# Altium schematic symbol library SamacSys.SchLib: 115 symbols (part 1 of 2)
Pins are listed as number, name and electrical type; pins without a type are passive.

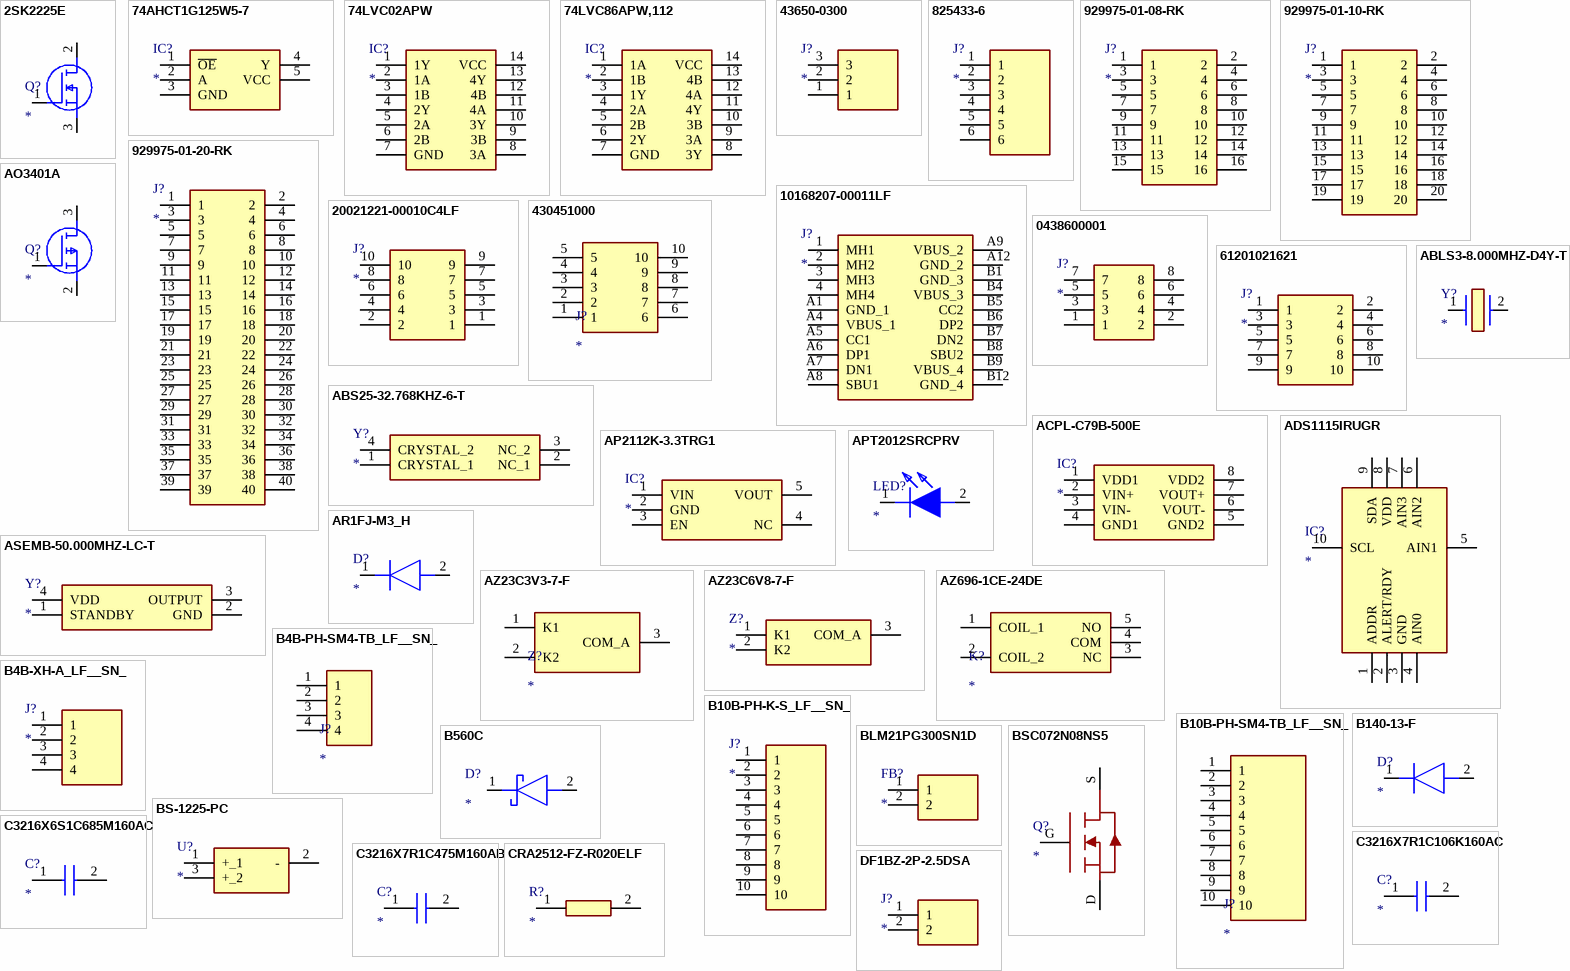
[diagram p0: symbols 2SK2225E to DF1BZ-2P-2.5DSA]

## 2SK2225E
designator Q?
MOSFET (N-Channel); Manufacturer_Name: Renesas Electronics; Manufacturer_Part_Number: 2SK2225E; Datasheet Link: https://www.renesas.com/us/en/document/dst/2sk2225-data-sheet-1500v-2a-mos-fet-high-speed-power-switching?language=en&r=1336396; Height: 5.8mm; Arrow Part Number: 2SK2225E; Arrow Price/Stock: https://www.arrow.com/en/products/2sk2225-e/renesas-electronics
footprint TO545P580X1560X2550-3P
pins: 1 G, 2 D, 3 S

## 74AHCT1G125W5-7
designator IC?
Integrated Circuit; Manufacturer_Name: Diodes Incorporated; Manufacturer_Part_Number: 74AHCT1G125W5-7; Datasheet Link: https://www.diodes.com//assets/Datasheets/74AHCT1G125.pdf; Height: 1.4mm; Mouser Part Number: 621-74AHCT1G125W5-7; Mouser Price/Stock: https://www.mouser.co.uk/ProductDetail/Diodes-Incorporated/74AHCT1G125W5-7?qs=MKoP7Oyr0W7vMAMo33ehAw%3D%3D; Arrow Part Number: 74AHCT1G125W5-7; Arrow Price/Stock: https://www.arrow.com/en/products/74ahct1g125w5-7/diodes-incorporated.html?utm_currency=USD&region=nac
footprint SOT95P285X140-5N
pins: 1 ~{OE}, 2 A, 3 GND, 4 Y, 5 VCC

## 74LVC02APW
designator IC?
Integrated Circuit; Manufacturer_Name: NXP; Manufacturer_Part_Number: 74LVC02APW; Datasheet Link: https://assets.nexperia.cn/documents/data-sheet/74LVC02A.pdf; Height: 1.1mm
footprint SOP65P640X110-14N
pins: 1 1Y, 2 1A, 3 1B, 4 2Y, 5 2A, 6 2B, 7 GND, 8 3A, 9 3B, 10 3Y, 11 4A, 12 4B, 13 4Y, 14 VCC

## 74LVC86APW,112
designator IC?
Integrated Circuit; Manufacturer_Name: Nexperia; Manufacturer_Part_Number: 74LVC86APW,112; Datasheet Link: https://assets.nexperia.com/documents/data-sheet/74LVC86A.pdf; Height: 1.1mm; Mouser Part Number: 771-74LVC86APW; Mouser Price/Stock: https://www.mouser.co.uk/ProductDetail/Nexperia/74LVC86APW112?qs=me8TqzrmIYV74FOn8cDG%2FA%3D%3D; Arrow Part Number: 74LVC86APW,112; Arrow Price/Stock: https://www.arrow.com/en/products/74lvc86apw112/nexperia?region=europe
footprint SOP65P640X110-14N
pins: 1 1A, 2 1B, 3 1Y, 4 2A, 5 2B, 6 2Y, 7 GND, 8 3Y, 9 3A, 10 3B, 11 4Y, 12 4A, 13 4B, 14 VCC

## 43650-0300
designator J?
Connector; Manufacturer_Name: Molex; Manufacturer_Part_Number: 43650-0300; Datasheet Link: https://www.molex.com/pdm_docs/sd/436500200_sd.pdf; Height: 13.56mm; Mouser Part Number: 538-43650-0300; Mouser Price/Stock: https://www.mouser.co.uk/ProductDetail/Molex/43650-0300?qs=P7cO%252B%252BFDLzTpuYfoYulxAA%3D%3D; Arrow Part Number: 43650-0300; Arrow Price/Stock: https://www.arrow.com/en/products/43650-0300/molex?region=nac
footprint 436500300
pins: 1, 2, 3

## 825433-6
designator J?
Connector; Manufacturer_Name: TE Connectivity; Manufacturer_Part_Number: 825433-6; Datasheet Link: http://www.te.com/commerce/DocumentDelivery/DDEController?Action=srchrtrv&DocNm=825433&DocType=Customer+Drawing&DocLang=English&DocFormat=pdf&PartCntxt=825433-6; Height: 9.5mm; Mouser Part Number: 571-825433-6; Mouser Price/Stock: https://www.mouser.co.uk/ProductDetail/TE-Connectivity/825433-6?qs=Yxch5oR%2FTsP7lcFgF3yySA%3D%3D; Arrow Part Number: 825433-6; Arrow Price/Stock: https://www.arrow.com/en/products/825433-6/te-connectivity?region=europe
footprint HDRV6W63P0X254_1X6_1524X254X950P
pins: 1, 2, 3, 4, 5, 6

## 929975-01-08-RK
designator J?
Connector; Manufacturer_Name: 3M; Manufacturer_Part_Number: 929975-01-08-RK; Datasheet Link: http://multimedia.3m.com/mws/media/22500O/3mtm-boardmount-skt-100-100x-100strt-sldr-tails-ts0815.pdf; Height: 8.382mm; Mouser Part Number: 517-929975-01-08-RK; Mouser Price/Stock: https://www.mouser.co.uk/ProductDetail/3M-Electronic-Solutions-Division/929975-01-08-RK?qs=4V84emjyG37XYKYdD412kA%3D%3D; Arrow Part Number: 929975-01-08-RK; Arrow Price/Stock: https://www.arrow.com/en/products/929975-01-08-rk/3m
footprint RHDR16W76P254_2X8_2032X508X838P
pins: 1, 2, 3, 4, 5, 6, 7, 8, 9, 10, 11, 12, 13, 14, 15, 16

## 929975-01-10-RK
designator J?
Connector; Manufacturer_Name: 3M; Manufacturer_Part_Number: 929975-01-10-RK; Datasheet Link: https://componentsearchengine.com/Datasheets/2/929975-01-10-RK.pdf; Height: 8.26mm; Mouser Part Number: 517-929975-01-10-RK; Mouser Price/Stock: https://www.mouser.co.uk/ProductDetail/3M-Electronic-Solutions-Division/929975-01-10-RK?qs=4V84emjyG36NmJ6%252BaqUY8g%3D%3D; Arrow Part Number: 929975-01-10-RK; Arrow Price/Stock: https://www.arrow.com/en/products/929975-01-10-rk/3m
footprint 9299750110RK
pins: 1, 2, 3, 4, 5, 6, 7, 8, 9, 10, 11, 12, 13, 14, 15, 16, 17, 18, 19, 20

## 929975-01-20-RK
designator J?
Connector; Manufacturer_Name: 3M; Manufacturer_Part_Number: 929975-01-20-RK; Datasheet Link: http://multimedia.3m.com/mws/media/22500O/3mtm-boardmount-skt-100-100x-100strt-sldr-tails-ts0815.pdf; Height: 8.26mm; Mouser Part Number: 517-929975-01-20-RK; Mouser Price/Stock: https://www.mouser.co.uk/ProductDetail/3M-Electronic-Solutions-Division/929975-01-20-RK?qs=4V84emjyG36rTUkvYfpt0A%3D%3D; Arrow Part Number: 929975-01-20-RK; Arrow Price/Stock: https://www.arrow.com/en/products/929975-01-20-rk/3m?region=nac
footprint RHDR40W76P254_2X20_5080X508X826P
pins: 1, 2, 3, 4, 5, 6, 7, 8, 9, 10, 11, 12, 13, 14, 15, 16, 17, 18, 19, 20, 21, 22, 23, 24, 25, 26, 27, 28, 29, 30, 31, 32, 33, 34, 35, 36, 37, 38, 39, 40

## 10168207-00011LF
designator J?
Connector; Manufacturer_Name: Amphenol Communications Solutions; Manufacturer_Part_Number: 10168207-00011LF; Datasheet Link: https://www.amphenol-cs.com/product/1016820700011lf.html; Height: 6.6mm; Arrow Part Number: 10168207-00011LF; Arrow Price/Stock: https://www.arrow.com/en/products/10168207-00011lf/amphenol-fci?utm_currency=USD&region=nac
footprint 1016820700011LF
pins: 1 MH1, 2 MH2, 3 MH3, 4 MH4, A1 GND_1, A4 VBUS_1, A5 CC1, A6 DP1, A7 DN1, A8 SBU1, A9 VBUS_2, A12 GND_2, B1 GND_3, B4 VBUS_3, B5 CC2, B6 DP2, B7 DN2, B8 SBU2, B9 VBUS_4, B12 GND_4

## 20021221-00010C4LF
designator J?
Connector; Manufacturer_Name: Amphenol Communications Solutions; Manufacturer_Part_Number: 20021221-00010C4LF; Datasheet Link: https://cdn.amphenol-cs.com/media/wysiwyg/files/drawing/20021221.pdf; Height: 6.6mm; Arrow Part Number: 20021221-00010C4LF; Arrow Price/Stock: https://www.arrow.com/en/products/20021221-00010c4lf/amphenol-fci?region=nac
footprint 2002122100010C4LF
pins: 1, 2, 3, 4, 5, 6, 7, 8, 9, 10

## 430451000
designator J?
Connector; Manufacturer_Name: Molex; Manufacturer_Part_Number: 430451000; Datasheet Link: https://www.molex.com/pdm_docs/sd/430450200_sd.pdf; Height: 8.77mm
footprint 430451010
pins: 1, 2, 3, 4, 5, 6, 7, 8, 9, 10

## 0438600001
designator J?
Connector; Manufacturer_Name: Molex; Manufacturer_Part_Number: 0438600001; Datasheet Link: https://www.molex.com/en-us/products/part-detail-pdf/438600001?display=pdf; Height: 13.46mm; Mouser Part Number: N/A; Mouser Price/Stock: https://www.mouser.co.uk/ProductDetail/Molex/0438600001?qs=%252BdQmOuGyFcGCvppQGdetpg%3D%3D; Arrow Part Number: 0438600001; Arrow Price/Stock: https://www.arrow.com/en/products/0438600001/molex?utm_currency=USD&region=europe
footprint 0438600001
pins: 1, 2, 3, 4, 5, 6, 7, 8

## 61201021621
designator J?
Connector; Manufacturer_Name: Wurth Elektronik; Manufacturer_Part_Number: 61201021621; Datasheet Link: https://www.we-online.com/catalog/datasheet/61201021621.pdf; Height: 9.25mm; Mouser Part Number: 710-61201021621; Mouser Price/Stock: https://www.mouser.co.uk/ProductDetail/Wurth-Elektronik/61201021621?qs=W%252B2sBeLta1a0dwX5pxbfXw%3D%3D
footprint SHDR10W64P254_2X5_2036X885X925P
pins: 1, 2, 3, 4, 5, 6, 7, 8, 9, 10

## ABLS3-8.000MHZ-D4Y-T
designator Y?
Crystal or Oscillator; Manufacturer_Name: ABRACON; Manufacturer_Part_Number: ABLS3-8.000MHZ-D4Y-T; Datasheet Link: https://abracon.com/Resonators/abls.pdf; Mouser Part Number: 815-ABLS3-8MD4YT; Mouser Price/Stock: https://www.mouser.co.uk/ProductDetail/ABRACON/ABLS3-8000MHZ-D4Y-T?qs=WRzgYYgs9gC3im7pazpFGA%3D%3D; Arrow Part Number: ABLS3-8.000MHZ-D4Y-T; Arrow Price/Stock: https://www.arrow.com/en/products/abls3-8.000mhz-d4y-t/abracon?region=europe
footprint ABLS
pins: 1, 2

## ABS25-32.768KHZ-6-T
designator Y?
Crystal or Oscillator; Manufacturer_Name: ABRACON; Manufacturer_Part_Number: ABS25-32.768KHZ-6-T; Datasheet Link: https://abracon.com/Resonators/abs25.pdf; Height: 2mm; Mouser Part Number: 815-ABS25-32.768K6-T; Mouser Price/Stock: https://www.mouser.co.uk/ProductDetail/ABRACON/ABS25-32.768KHZ-6-T?qs=wl%2FhatdkTudHMJeSjMoOzg%3D%3D; Arrow Part Number: ABS25-32.768KHZ-6-T; Arrow Price/Stock: https://www.arrow.com/en/products/abs25-32.768khz-6-t/abracon?utm_currency=USD&region=nac
footprint ABS2532768KHZT
pins: 1 CRYSTAL_1, 2 NC_1, 3 NC_2, 4 CRYSTAL_2

## ACPL-C79B-500E
designator IC?
Integrated Circuit; Manufacturer_Name: Avago Technologies; Manufacturer_Part_Number: ACPL-C79B-500E; Datasheet Link: https://componentsearchengine.com/Datasheets/2/ACPL-C79B-500E.pdf; Height: 3.307mm; Mouser Part Number: 630-ACPL-C79B-500E; Mouser Price/Stock: https://www.mouser.co.uk/ProductDetail/Broadcom-Avago/ACPL-C79B-500E?qs=KAs5CcNu0T7wZOF1KoU8JA%3D%3D
footprint SOIC127P1150X331-8N
pins: 1 VDD1, 2 VIN+, 3 VIN-, 4 GND1, 5 GND2, 6 VOUT-, 7 VOUT+, 8 VDD2

## ADS1115IRUGR
designator IC?
Integrated Circuit; Manufacturer_Name: Texas Instruments; Manufacturer_Part_Number: ADS1115IRUGR; Datasheet Link: https://www.ti.com/lit/ds/symlink/ads1115.pdf?ts=1601235703022&ref_url=https%253A%252F%252Fwww.ti.com%252Fproduct%252FADS1115%253FkeyMatch%253DADS1115IRUGR%2526tisearch%253DSearch-EN-everything%2526usecase%253DOPN; Height: 0.4mm; Mouser Part Number: 595-ADS1115IRUGR; Mouser Price/Stock: https://www.mouser.co.uk/ProductDetail/Texas-Instruments/ADS1115IRUGR?qs=IK5e5L0zOXhqw%2F8AHSSbuA%3D%3D; Arrow Part Number: ADS1115IRUGR; Arrow Price/Stock: https://www.arrow.com/en/products/ads1115irugr/texas-instruments.html?utm_currency=USD&region=nac
footprint ADS1115IRUGR
pins: 1 ADDR, 2 ALERT/RDY, 3 GND, 4 AIN0, 5 AIN1, 6 AIN2, 7 AIN3, 8 VDD, 9 SDA, 10 SCL

## AO3401A
designator Q?
MOSFET (P-Channel); Manufacturer_Name: Alpha & Omega Semiconductors; Manufacturer_Part_Number: AO3401A; Datasheet Link: http://www.aosmd.com/pdfs/datasheet/AO3401A.pdf; Height: 1.25mm; Arrow Part Number: AO3401A; Arrow Price/Stock: https://www.arrow.com/en/products/ao3401a/alpha-and-omega-semiconductor.html?utm_currency=USD&region=europe
footprint SOT95P280X125-3N
pins: 1 G, 2 S, 3 D

## AP2112K-3.3TRG1
designator IC?
Integrated Circuit; Manufacturer_Name: Diodes Incorporated; Manufacturer_Part_Number: AP2112K-3.3TRG1; Datasheet Link: https://www.diodes.com//assets/Datasheets/AP2112.pdf; Height: 1.4mm; Mouser Part Number: 621-AP2112K-3.3TRG1; Mouser Price/Stock: https://www.mouser.co.uk/ProductDetail/Diodes-Incorporated/AP2112K-3.3TRG1?qs=x6A8l6qLYDDPYHosCdzh%2FA%3D%3D; Arrow Part Number: AP2112K-3.3TRG1; Arrow Price/Stock: https://www.arrow.com/en/products/ap2112k-3-3trg1_3/diodes-incorporated.html?utm_currency=USD&region=nac
footprint SOT95P285X140-5N
pins: 1 VIN, 2 GND, 3 EN, 4 NC, 5 VOUT

## APT2012SRCPRV
designator LED?
LED; Manufacturer_Name: Kingbright; Manufacturer_Part_Number: APT2012SRCPRV; Datasheet Link: https://datasheet.datasheetarchive.com/originals/distributors/Datasheets-DGA13/1155209.pdf; Height: 0.85mm; Mouser Part Number: 604-APT2012SRCPRV; Mouser Price/Stock: https://www.mouser.co.uk/ProductDetail/Kingbright/APT2012SRCPRV?qs=E09Sz5t5voXvTeyHQStwZw%3D%3D; Arrow Part Number: APT2012SRCPRV; Arrow Price/Stock: https://www.arrow.com/en/products/apt2012srcprv/kingbright
footprint LEDC2012X85N
pins: 1 K, 2 A

## AR1FJ-M3_H
designator D?
Diode; Manufacturer_Name: Vishay; Manufacturer_Part_Number: AR1FJ-M3/H; Datasheet Link: https://www.vishay.com/docs/87167/ar1fd_ar1fg_ar1fj_ar1fk_ar1f.pdf; Height: 1.08mm; Mouser Part Number: 78-AR1FJ-M3/H; Mouser Price/Stock: https://www.mouser.co.uk/ProductDetail/Vishay-General-Semiconductor/AR1FJ-M3-H?qs=81r%252BiQLm7BRtdacH%252BJR35A%3D%3D
footprint SODFL3718X108N
pins: 1 K, 2 A

## ASEMB-50.000MHZ-LC-T
designator Y?
Crystal or Oscillator; Manufacturer_Name: ABRACON; Manufacturer_Part_Number: ASEMB-50.000MHZ-LC-T; Datasheet Link: https://abracon.com/Oscillators/ASEMB.pdf; Height: 0.9mm; Mouser Part Number: 815-ASEMB-50MHZ-LC; Mouser Price/Stock: https://www.mouser.co.uk/ProductDetail/ABRACON/ASEMB-50.000MHZ-LC-T?qs=3YAjQa1E1OmnK8RKoSQlDQ%3D%3D; Arrow Part Number: ASEMB-50.000MHZ-LC-T; Arrow Price/Stock: https://www.arrow.com/en/products/asemb-50.000mhz-lc-t/abracon?region=nac
footprint ASEMB
pins: 1 STANDBY, 2 GND, 3 OUTPUT, 4 VDD

## AZ23C3V3-7-F
designator Z?
Zener Diode; Manufacturer_Name: Diodes Incorporated; Manufacturer_Part_Number: AZ23C3V3-7-F; Datasheet Link: https://www.diodes.com//assets/Datasheets/AZ23C2V7-AZ23C51.pdf; Height: 1.1mm; Mouser Part Number: 621-AZ23C3V3-7-F; Mouser Price/Stock: https://www.mouser.co.uk/ProductDetail/Diodes-Incorporated/AZ23C3V3-7-F?qs=rGAXPo9uwV1wE7LTrP7l4Q%3D%3D; Arrow Part Number: AZ23C3V3-7-F; Arrow Price/Stock: https://www.arrow.com/en/products/az23c3v3-7-f/diodes-incorporated.html?utm_currency=USD&region=nac
footprint SOT96P240X110-3N
pins: 1 K1, 2 K2, 3 COM_A

## AZ23C6V8-7-F
designator Z?
Zener Diode; Manufacturer_Name: Diodes Incorporated; Manufacturer_Part_Number: AZ23C6V8-7-F; Datasheet Link: https://www.diodes.com//assets/Datasheets/AZ23C2V7-AZ23C51.pdf; Height: 1.1mm; Mouser Part Number: 621-AZ23C6V8-F; Mouser Price/Stock: https://www.mouser.co.uk/ProductDetail/Diodes-Incorporated/AZ23C6V8-7-F?qs=r32ornLrM2jC3Twc9PxgWQ%3D%3D; Arrow Part Number: AZ23C6V8-7-F; Arrow Price/Stock: https://www.arrow.com/en/products/az23c6v8-7-f/diodes-incorporated?region=asia
footprint SOT96P240X110-3N
pins: 1 K1, 2 K2, 3 COM_A

## AZ696-1CE-24DE
designator K?
Relay or Contactor; Manufacturer_Name: Zettler Group; Manufacturer_Part_Number: AZ696-1CE-24DE; Datasheet Link: https://www.azettler.com/media/pdfs/relays/datasheets/AZ696.pdf; Height: 16.5mm
footprint AZ6961CE24DE
pins: 1 COIL_1, 2 COIL_2, 3 NC, 4 COM, 5 NO

## B4B-PH-SM4-TB_LF__SN_
designator J?
Connector; Manufacturer_Name: JST (JAPAN SOLDERLESS TERMINALS); Manufacturer_Part_Number: B4B-PH-SM4-TB(LF)(SN); Datasheet Link: https://datasheet.datasheetarchive.com/originals/distributors/Datasheets_SAMA/75c02eb1799788a6b14d7c521ee36df4.pdf; Mouser Part Number: N/A; Mouser Price/Stock: https://www.mouser.co.uk/ProductDetail/JST-Commercial/B4B-PH-SM4-TBLFSN?qs=QpmGXVUTftEshE2WNd%252BKhA%3D%3D; Arrow Part Number: B4B-PH-SM4-TB(LF)(SN); Arrow Price/Stock: https://www.arrow.com/en/products/b4b-ph-sm4-tb-lf-sn/jst-manufacturing?utm_currency=USD&region=europe
footprint B4B-PH-SM4_1
pins: 1, 2, 3, 4

## B4B-XH-A_LF__SN_
designator J?
Connector; Manufacturer_Name: JST (JAPAN SOLDERLESS TERMINALS); Manufacturer_Part_Number: B4B-XH-A(LF)(SN); Datasheet Link: https://datasheet.lcsc.com/szlcsc/JST-Sales-America-B4B-XH-A-LF-SN_C144395.pdf; Height: 7mm; Mouser Part Number: 306-B4BXHALFSN; Mouser Price/Stock: https://www.mouser.co.uk/ProductDetail/JST-Commercial/B4B-XH-ALFSN?qs=cdbOS8ANM9CfC08d%252BywhFw%3D%3D; Arrow Part Number: B4B-XH-A(LF)(SN); Arrow Price/Stock: https://www.arrow.com/en/products/b4b-xh-a-lf-sn/jst-manufacturing.html?utm_currency=USD&region=europe
footprint B4BXHALFSN
pins: 1, 2, 3, 4

## B10B-PH-K-S_LF__SN_
designator J?
Connector; Manufacturer_Name: JST (JAPAN SOLDERLESS TERMINALS); Manufacturer_Part_Number: B10B-PH-K-S(LF)(SN); Datasheet Link: http://uk.rs-online.com/web/p/products/8201428; Height: 6mm; Mouser Part Number: 306-B10BPHKSLFSNP; Mouser Price/Stock: https://www.mouser.co.uk/ProductDetail/JST-Commercial/B10B-PH-K-SLFSN?qs=cdbOS8ANM9DLK%252BV4%252BSvt4w%3D%3D; Arrow Part Number: B10B-PH-K-S(LF)(SN); Arrow Price/Stock: https://www.arrow.com/en/products/b10b-ph-k-s-lf-sn/jst-manufacturing.html?utm_currency=USD&region=europe
footprint SHDR10W50P0X200_1X10_2190X450X600P
pins: 1, 2, 3, 4, 5, 6, 7, 8, 9, 10

## B10B-PH-SM4-TB_LF__SN_
designator J?
Connector; Manufacturer_Name: JST (JAPAN SOLDERLESS TERMINALS); Manufacturer_Part_Number: B10B-PH-SM4-TB(LF)(SN); Datasheet Link: 3D.stepfileforB10B-PH-SM4-TB; Mouser Part Number: N/A; Mouser Price/Stock: https://www.mouser.co.uk/ProductDetail/JST-Commercial/B10B-PH-SM4-TBLFSN?qs=QpmGXVUTftF7W3%2Fyb2FnNQ%3D%3D; Arrow Part Number: B10B-PH-SM4-TB(LF)(SN); Arrow Price/Stock: https://www.arrow.com/en/products/b10b-ph-sm4-tb-lf-sn/jst-manufacturing.html?utm_currency=USD&region=europe
footprint B10B-PH-SM4-TB
pins: 1, 2, 3, 4, 5, 6, 7, 8, 9, 10

## B140-13-F
designator D?
Diode; Manufacturer_Name: Diodes Incorporated; Manufacturer_Part_Number: B140-13-F; Datasheet Link: https://datasheet.datasheetarchive.com/originals/distributors/Datasheets-DGA23/1390625.pdf; Height: 2.4mm; Mouser Part Number: 621-B140-F; Mouser Price/Stock: https://www.mouser.co.uk/ProductDetail/Diodes-Incorporated/B140-13-F?qs=WD5RSVa%252BtHX7upkpmyg1Cg%3D%3D; Arrow Part Number: B140-13-F; Arrow Price/Stock: https://www.arrow.com/en/products/b140-13-f/diodes-incorporated?utm_currency=USD&region=nac
footprint DIOM5226X240N
pins: 1 K, 2 A

## B560C
designator D?
Schottky Diode; Manufacturer_Name: Lite-On; Manufacturer_Part_Number: B560C; Datasheet Link: https://datasheet.datasheetarchive.com/originals/distributors/Datasheets-17/DSA-323419.pdf; Height: 2.5mm; Arrow Part Number: B560C; Arrow Price/Stock: https://www.arrow.com/en/products/b560c/lite-on-technology.html?utm_currency=USD&region=nac
footprint DIOM7959X250N
pins: 1 K, 2 A

## BLM21PG300SN1D
designator FB?
Ferrite Bead; Manufacturer_Name: Murata Electronics; Manufacturer_Part_Number: BLM21PG300SN1D; Datasheet Link: https://www.murata.com/en-global/products/productdetail?partno=BLM21PG300SN1%23; Height: 1.05mm; Mouser Part Number: 81-BLM21P300S; Mouser Price/Stock: https://www.mouser.co.uk/ProductDetail/Murata-Electronics/BLM21PG300SN1D?qs=vSIcEeo8lXttJMV%2F1g5%2F6A%3D%3D; Arrow Part Number: BLM21PG300SN1D; Arrow Price/Stock: https://www.arrow.com/en/products/blm21pg300sn1d/murata-manufacturing.html?utm_currency=USD&region=nac
footprint BEADC2012X105N
pins: 1, 2

## BS-1225-PC
designator U?
Undefined or Miscellaneous; Manufacturer_Name: Memory Protection Devices; Manufacturer_Part_Number: BS-1225-PC; Datasheet Link: http://www.memoryprotectiondevices.com/datasheets/BS-1225-PC-datasheet.pdf; Height: 8.33mm
footprint BS1225PC
pins: 1 +_1, 2 -, 3 +_2

## BSC072N08NS5
designator Q?
Transistor; Manufacturer_Name: Infineon; Manufacturer_Part_Number: BSC072N08NS5; Datasheet Link: https://www.infineon.com/dgdl/Infineon-BSC072N08NS5-DS-v02_00-EN.pdf?fileId=5546d4624ad04ef9014ae3d8e8192c7c; Mouser Part Number: N/A; Mouser Price/Stock: https://www.mouser.co.uk/ProductDetail/Infineon-Technologies/BSC072N08NS5?qs=eERmAtE5kX0PueJFVqKhsA%3D%3D
footprint BSC080N03LSG
pins: D, G, S

## C3216X6S1C685M160AC
designator C?
Capacitor; Manufacturer_Name: TDK; Manufacturer_Part_Number: C3216X6S1C685M160AC; Datasheet Link: https://product.tdk.com/info/en/catalog/datasheets/mlcc_commercial_midvoltage_en.pdf; Height: 1.8mm; Mouser Part Number: 810-C3216X6S1C685M6A; Mouser Price/Stock: https://www.mouser.co.uk/ProductDetail/TDK/C3216X6S1C685M160AC?qs=xLDY6iXSiQb%2FcKt%252BIMIujg%3D%3D
footprint CAPC3216X180N
pins: 1, 2

## C3216X7R1C106K160AC
designator C?
Capacitor; Manufacturer_Name: TDK; Manufacturer_Part_Number: C3216X7R1C106K160AC; Datasheet Link: https://product.tdk.com/info/en/catalog/datasheets/mlcc_commercial_midvoltage_en.pdf; Height: 1.8mm; Mouser Part Number: 810-C3216X7R1C106K; Mouser Price/Stock: https://www.mouser.co.uk/ProductDetail/TDK/C3216X7R1C106K160AC?qs=NRhsANhppD%252BpNpcA%252BnoX2A%3D%3D; Arrow Part Number: C3216X7R1C106K160AC; Arrow Price/Stock: https://www.arrow.com/en/products/c3216x7r1c106k160ac/tdk.html?utm_currency=USD&region=nac
footprint C3216X7R1C106K160AC
pins: 1, 2

## C3216X7R1C475M160AB
designator C?
Capacitor; Manufacturer_Name: TDK; Manufacturer_Part_Number: C3216X7R1C475M160AB; Datasheet Link: https://product.tdk.com/info/en/catalog/datasheets/mlcc_commercial_midvoltage_en.pdf; Height: 1.8mm; Mouser Part Number: 810-C3216X7R1C475M-6; Mouser Price/Stock: https://www.mouser.co.uk/ProductDetail/TDK/C3216X7R1C475M160AB?qs=LcTL%2F5vFEzFeLWJRGcejwg%3D%3D
footprint CAPC3216X180N
pins: 1, 2

## CRA2512-FZ-R020ELF
designator R?
Resistor; Manufacturer_Name: Bourns; Manufacturer_Part_Number: CRA2512-FZ-R020ELF; Datasheet Link: https://componentsearchengine.com/Datasheets/2/CRA2512-FZ-R020ELF.pdf; Height: 0.9mm; Mouser Part Number: 652-CRA2512FZ-R20ELF; Mouser Price/Stock: https://www.mouser.co.uk/ProductDetail/Bourns/CRA2512-FZ-R020ELF?qs=WqWCsLCZBkqBWIN8p659hA%3D%3D; Arrow Part Number: CRA2512-FZ-R020ELF; Arrow Price/Stock: https://www.arrow.com/en/products/cra2512-fz-r020elf/bourns?utm_currency=USD&region=nac
footprint RESC6434X90N
pins: 1, 2

## DF1BZ-2P-2.5DSA
designator J?
Connector; Manufacturer_Name: Hirose; Manufacturer_Part_Number: DF1BZ-2P-2.5DSA; Datasheet Link: https://componentsearchengine.com/Datasheets/1/DF1BZ-2P-2.5DSA.pdf; Height: 9.5mm; Mouser Part Number: 798-DF1BZ-2P-2.5DSA; Mouser Price/Stock: https://www.mouser.co.uk/ProductDetail/Hirose-Connector/DF1BZ-2P-2.5DSA?qs=zOgoZG1CgI8LrP8JeSLTcg%3D%3D
footprint SHDR2W64P0X250_1X2_750X570X950P
pins: 1, 2

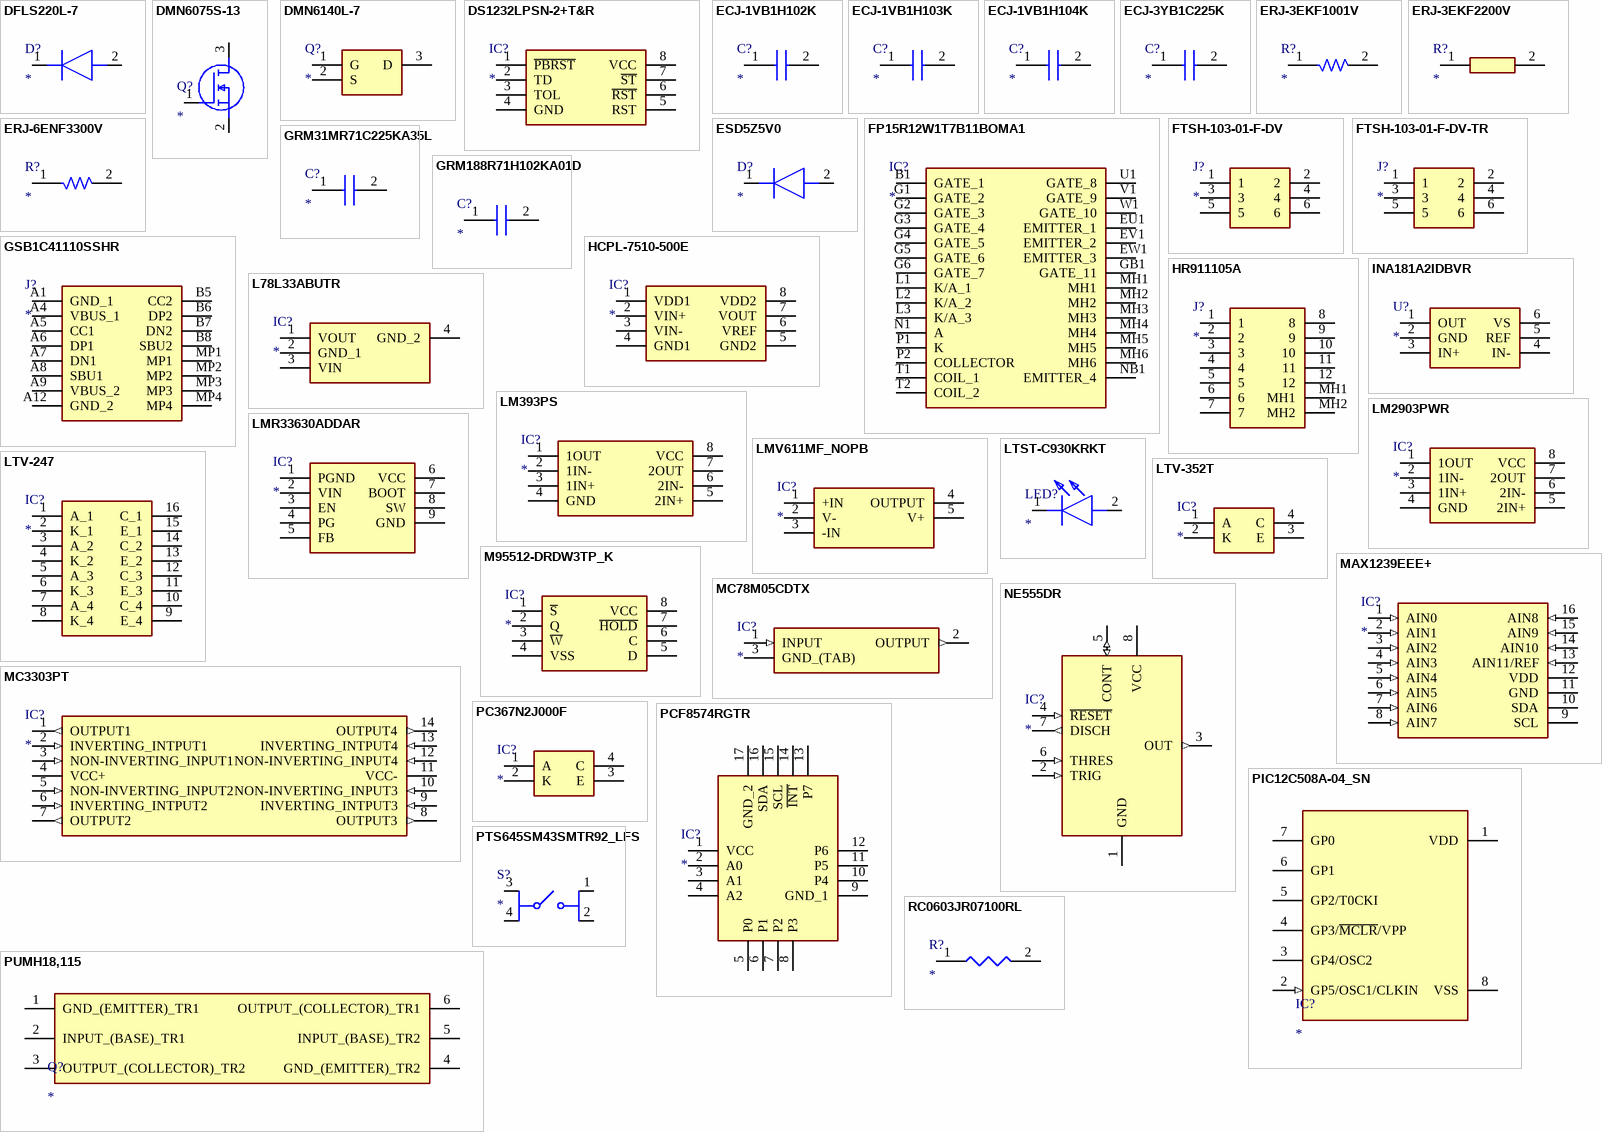
[diagram p1: symbols DFLS220L-7 to RC0603JR07100RL]

## DFLS220L-7
designator D?
Diode; Manufacturer_Name: Diodes Incorporated; Manufacturer_Part_Number: DFLS220L-7; Datasheet Link: https://www.diodes.com//assets/Datasheets/DFLS220L.pdf; Height: 1mm; Mouser Part Number: 621-DFLS220L-7; Mouser Price/Stock: https://www.mouser.co.uk/ProductDetail/Diodes-Incorporated/DFLS220L-7?qs=JV7lzlMm3yKg8xIxKLbqeg%3D%3D; Arrow Part Number: DFLS220L-7; Arrow Price/Stock: https://www.arrow.com/en/products/dfls220l-7/diodes-incorporated?region=nac
footprint DFLS220L7
pins: 1 K, 2 A

## DMN6075S-13
designator Q?
MOSFET (N-Channel); Manufacturer_Name: Diodes Incorporated; Manufacturer_Part_Number: DMN6075S-13; Datasheet Link: https://eu.mouser.com/datasheet/3/175/1/DMN6075S.pdf; Height: 1.1mm; Mouser Part Number: 621-DMN6075S-13; Mouser Price/Stock: https://www.mouser.co.uk/ProductDetail/Diodes-Incorporated/DMN6075S-13?qs=kgdtKPt0h%252BBdQiAECMpVGw%3D%3D; Arrow Part Number: DMN6075S-13; Arrow Price/Stock: https://www.arrow.com/en/products/dmn6075s-13/diodes-incorporated?utm_currency=USD&region=nac
footprint SOT96P240X110-3N
pins: 1 G, 2 S, 3 D

## DMN6140L-7
designator Q?
Transistor; Manufacturer_Name: Diodes Incorporated; Manufacturer_Part_Number: DMN6140L-7; Datasheet Link: https://www.diodes.com//assets/Datasheets/DMN6140L.pdf; Height: 1.1mm; Mouser Part Number: 621-DMN6140L-7; Mouser Price/Stock: https://www.mouser.co.uk/ProductDetail/Diodes-Incorporated/DMN6140L-7?qs=M%2FOdCRO8QQ0gki98nN7lXQ%3D%3D; Arrow Part Number: DMN6140L-7; Arrow Price/Stock: https://www.arrow.com/en/products/dmn6140l-7/diodes-incorporated?utm_currency=USD&region=asia
footprint SOT96P240X110-3N
pins: 1 G, 2 S, 3 D

## DS1232LPSN-2+T&R
designator IC?
Integrated Circuit; Manufacturer_Name: Analog Devices; Manufacturer_Part_Number: DS1232LPSN-2+T&R; Datasheet Link: https://pdfserv.maximintegrated.com/en/ds/DS1232LP.pdf; Height: 1.75mm; Mouser Part Number: 700-DS1232LPSN-2T&R; Mouser Price/Stock: https://www.mouser.co.uk/ProductDetail/Maxim-Integrated/DS1232LPSN-2%2bTR?qs=Jw2w9zrI6w%2FDdsXXbj6apQ%3D%3D; Arrow Part Number: DS1232LPSN-2+T&R; Arrow Price/Stock: https://www.arrow.com/en/products/ds1232lpsn-2tr/maxim-integrated?region=nac
footprint SOIC127P600X175-8N
pins: 1 ~{PBRST}, 2 TD, 3 TOL, 4 GND, 5 RST, 6 ~{RST}, 7 ~{ST}, 8 VCC

## ECJ-1VB1H102K
designator C?
Capacitor; Manufacturer_Name: Panasonic; Manufacturer_Part_Number: ECJ-1VB1H102K; Datasheet Link: https://media.digikey.com/pdf/Data%20Sheets/Panasonic%20Capacitors%20PDFs/ECJ_(General).pdf; Height: 0.9mm; Mouser Part Number: N/A; Mouser Price/Stock: http://www.mouser.com/Search/ProductDetail.aspx?qs=lGJwT77Xlmb%252b4hRyOmIB5A%3d%3d
footprint CAPC1608X90N
pins: 1, 2

## ECJ-1VB1H103K
designator C?
Capacitor; Manufacturer_Name: Panasonic; Manufacturer_Part_Number: ECJ-1VB1H103K; Datasheet Link: https://media.digikey.com/pdf/Data%20Sheets/Panasonic%20Capacitors%20PDFs/ECJ_(General).pdf; Height: 0.9mm; Mouser Part Number: N/A; Mouser Price/Stock: https://www.mouser.co.uk/ProductDetail/Panasonic/ECJ-1VB1H103K?qs=lGJwT77XlmYjRQ45jbm3mw%3D%3D
footprint CAPC1608X90N
pins: 1, 2

## ECJ-1VB1H104K
designator C?
Capacitor; Manufacturer_Name: Panasonic; Manufacturer_Part_Number: ECJ-1VB1H104K; Datasheet Link: https://componentsearchengine.com/Datasheets/1/ECJ-1VB1H104K.pdf; Height: 0.9mm; Mouser Part Number: 667-ECJ-1VB1H104K; Mouser Price/Stock: https://www.mouser.com/Search/Refine.aspx?Keyword=667-ECJ-1VB1H104K
footprint CAPC1608X90N
pins: 1, 2

## ECJ-3YB1C225K
designator C?
Capacitor; Manufacturer_Name: Panasonic; Manufacturer_Part_Number: ECJ-3YB1C225K; Datasheet Link: https://media.digikey.com/pdf/Data%20Sheets/Panasonic%20Capacitors%20PDFs/ECJ(HighCapacitance).pdf; Height: 1.8mm; Mouser Part Number: 667-ECJ-3YB1C225K; Mouser Price/Stock: https://www.mouser.co.uk/ProductDetail/Panasonic/ECJ-3YB1C225K?qs=ppuDbbk9O4zz0%2FKHA1MBBw%3D%3D
footprint CAPC3216X180N
pins: 1, 2

## ERJ-3EKF1001V
designator R?
Resistor; Manufacturer_Name: Panasonic; Manufacturer_Part_Number: ERJ-3EKF1001V; Datasheet Link: http://industrial.panasonic.com/cdbs/www-data/pdf/RDA0000/AOA0000C86.pdf; Height: 0.55mm; Mouser Part Number: 667-ERJ-3EKF1001V; Mouser Price/Stock: https://www.mouser.co.uk/ProductDetail/Panasonic/ERJ-3EKF1001V?qs=H7k1u0Mp9JTM8yQxOuvoDg%3D%3D; Arrow Part Number: ERJ-3EKF1001V; Arrow Price/Stock: https://www.arrow.com/en/products/erj-3ekf1001v/panasonic.html?utm_currency=USD&region=asia
footprint RESC1608X55N
pins: 1, 2

## ERJ-3EKF2200V
designator R?
Resistor; Manufacturer_Name: Panasonic; Manufacturer_Part_Number: ERJ-3EKF2200V; Datasheet Link: http://industrial.panasonic.com/cdbs/www-data/pdf/RDA0000/AOA0000C86.pdf; Height: 0.55mm; Mouser Part Number: 667-ERJ-3EKF2200V; Mouser Price/Stock: https://www.mouser.co.uk/ProductDetail/Panasonic/ERJ-3EKF2200V?qs=iBwFsHVUAOcTUCNoJPNpnQ%3D%3D; Arrow Part Number: ERJ-3EKF2200V; Arrow Price/Stock: https://www.arrow.com/en/products/erj-3ekf2200v/panasonic?region=nac
footprint RESC1608X55N
pins: 1, 2

## ERJ-6ENF3300V
designator R?
Resistor; Manufacturer_Name: Panasonic; Manufacturer_Part_Number: ERJ-6ENF3300V; Datasheet Link: https://industrial.panasonic.com/cdbs/www-data/pdf/RDA0000/AOA0000C84.pdf; Height: 0.7mm; Mouser Part Number: 667-ERJ-6ENF3300V; Mouser Price/Stock: https://www.mouser.co.uk/ProductDetail/Panasonic/ERJ-6ENF3300V?qs=50QC8w71jAutVt4SKpyZ1A%3D%3D; Arrow Part Number: ERJ-6ENF3300V; Arrow Price/Stock: https://www.arrow.com/en/products/erj6enf3300v/panasonic?region=europe
footprint ERJ6ENF1000V
pins: 1, 2

## ESD5Z5V0
designator D?
Diode; Manufacturer_Name: Diotec; Manufacturer_Part_Number: ESD5Z5V0; Datasheet Link: https://www.mouser.in/datasheet/2/849/esd5z2v5-2891948.pdf; Height: 0.7mm; Mouser Part Number: 637-ESD5Z5V0; Mouser Price/Stock: https://www.mouser.co.uk/ProductDetail/Diotec-Semiconductor/ESD5Z5V0?qs=OlC7AqGiEDkOteFEVl3upQ%3D%3D; Arrow Part Number: ESD5Z5V0; Arrow Price/Stock: https://www.arrow.com/en/products/esd5z5v0/diotec-semiconductor-ag?utm_currency=USD&region=nac
footprint SODFL1608X70N
pins: 1 K, 2 A

## FP15R12W1T7B11BOMA1
designator IC?
Integrated Circuit; Manufacturer_Name: Infineon; Manufacturer_Part_Number: FP15R12W1T7B11BOMA1; Datasheet Link: https://componentsearchengine.com/Datasheets/2/FP15R12W1T7B11BOMA1.pdf; Height: 12.35mm; Mouser Part Number: 726-FP15R12W1T7B11BO; Mouser Price/Stock: https://www.mouser.co.uk/ProductDetail/Infineon-Technologies/FP15R12W1T7B11BOMA1?qs=mAH9sUMRCtt9RKnXHnnRNg%3D%3D; Arrow Part Number: FP15R12W1T7B11BOMA1; Arrow Price/Stock: https://www.arrow.com/en/products/fp15r12w1t7b11boma1/infineon-technologies-ag?region=nac
footprint FP15R12W1T7B11BOMA1
pins: B1 GATE_1, EU1 EMITTER_1, EV1 EMITTER_2, EW1 EMITTER_3, G1 GATE_2, G2 GATE_3, G3 GATE_4, G4 GATE_5, G5 GATE_6, G6 GATE_7, GB1 GATE_11, L1 K/A_1, L2 K/A_2, L3 K/A_3, MH1, MH2, MH3, MH4, MH5, MH6, N1 A, NB1 EMITTER_4, P1 K, P2 COLLECTOR, T1 COIL_1, T2 COIL_2, U1 GATE_8, V1 GATE_9, W1 GATE_10

## FTSH-103-01-F-DV
designator J?
Connector; Manufacturer_Name: SAMTEC; Manufacturer_Part_Number: FTSH-103-01-F-DV; Datasheet Link: https://suddendocs.samtec.com/prints/ftsh-1xx-xx-xxx-dv-xxx-xxx-x-xx-mkt.pdf; Height: 4.7mm; Mouser Part Number: 200-FTSH10301FDV; Mouser Price/Stock: https://www.mouser.co.uk/ProductDetail/Samtec/FTSH-103-01-F-DV?qs=0lQeLiL1qyapSxhfJ1D0vw%3D%3D; Arrow Part Number: FTSH-103-01-F-DV; Arrow Price/Stock: https://www.arrow.com/en/products/ftsh-103-01-f-dv/samtec?region=nac
footprint FTSH10301FDV
pins: 1, 2, 3, 4, 5, 6

## FTSH-103-01-F-DV-TR
designator J?
Connector; Manufacturer_Name: SAMTEC; Manufacturer_Part_Number: FTSH-103-01-F-DV-TR; Datasheet Link: http://suddendocs.samtec.com/prints/ftsh-1xx-xx-xxx-dv-xxx-xxx-mkt.pdf; Mouser Part Number: 200-FTSH10301FDVTR; Mouser Price/Stock: https://www.mouser.co.uk/ProductDetail/Samtec/FTSH-103-01-F-DV-TR?qs=92ilVni64gxfHAnR47P9HQ%3D%3D; Arrow Part Number: FTSH-103-01-F-DV-TR; Arrow Price/Stock: https://www.arrow.com/en/products/ftsh-103-01-f-dv-tr/samtec?utm_currency=USD&region=europe
footprint FTSH-103-XX-YYY-DV-TR
pins: 1, 2, 3, 4, 5, 6

## GRM31MR71C225KA35L
designator C?
Capacitor; Manufacturer_Name: Murata Electronics; Manufacturer_Part_Number: GRM31MR71C225KA35L; Datasheet Link: https://search.murata.co.jp/Ceramy/image/img/A01X/G101/ENG/GRM31MR71C225KA35-02A.pdf; Height: 1.25mm; Mouser Part Number: 81-GRM426X225K16L; Mouser Price/Stock: https://www.mouser.co.uk/ProductDetail/Murata-Electronics/GRM31MR71C225KA35L?qs=JVCxRIvUwGzH5e33oY%2FQjg%3D%3D; Arrow Part Number: GRM31MR71C225KA35L; Arrow Price/Stock: https://www.arrow.com/en/products/grm31mr71c225ka35l/murata-manufacturing
footprint GRM31MR71E105KA01L
pins: 1 C1, 2 C2

## GRM188R71H102KA01D
designator C?
Capacitor; Manufacturer_Name: Murata Electronics; Manufacturer_Part_Number: GRM188R71H102KA01D; Datasheet Link: https://search.murata.co.jp/Ceramy/image/img/A01X/G101/ENG/GRM188R71H102KA01-01.pdf; Height: 0.9mm; Mouser Part Number: 81-GRM39X102K050; Mouser Price/Stock: https://www.mouser.co.uk/ProductDetail/Murata-Electronics/GRM188R71H102KA01D?qs=Qu7Ae%2Fbfg46yEdD2q0T00g%3D%3D; Arrow Part Number: GRM188R71H102KA01D; Arrow Price/Stock: https://www.arrow.com/en/products/grm188r71h102ka01d/murata-manufacturing?utm_currency=USD&region=europe
footprint CAPC1608X90N
pins: 1, 2

## GSB1C41110SSHR
designator J?
Connector; Manufacturer_Name: Amphenol Communications Solutions; Manufacturer_Part_Number: GSB1C41110SSHR; Datasheet Link: https://cdn.amphenol-cs.com/media/wysiwyg/files/drawing/gsb1c41x10sshr-ax1.pdf; Height: 3.41mm
footprint GSB1C41110SSHR
pins: A1 GND_1, A4 VBUS_1, A5 CC1, A6 DP1, A7 DN1, A8 SBU1, A9 VBUS_2, A12 GND_2, B5 CC2, B6 DP2, B7 DN2, B8 SBU2, MP1, MP2, MP3, MP4

## HCPL-7510-500E
designator IC?
Integrated Circuit; Manufacturer_Name: Avago Technologies; Manufacturer_Part_Number: HCPL-7510-500E; Datasheet Link: https://www.mouser.jp/datasheet/2/678/av02-0951en-1828031.pdf; Height: 4.7mm; Mouser Part Number: 630-HCPL-7510-500E; Mouser Price/Stock: https://www.mouser.co.uk/ProductDetail/Broadcom-Avago/HCPL-7510-500E?qs=s%252BgfxR24RQ5yjo9zHgvakg%3D%3D
footprint DIP762W65P254L980H470Q8N
pins: 1 VDD1, 2 VIN+, 3 VIN-, 4 GND1, 5 GND2, 6 VREF, 7 VOUT, 8 VDD2

## HR911105A
designator J?
Connector; Manufacturer_Name: Hanrun Electronics; Manufacturer_Part_Number: HR911105A; Datasheet Link: https://datasheet.lcsc.com/szlcsc/Zhongshan-HanRun-Elec-HR911105A_C12074.pdf; Height: 13.75mm
footprint HR911105A
pins: 1, 2, 3, 4, 5, 6, 7, 8, 9, 10, 11, 12, MH1, MH2

## INA181A2IDBVR
designator U?
Undefined or Miscellaneous; Manufacturer_Name: Texas Instruments; Manufacturer_Part_Number: INA181A2IDBVR; Datasheet Link: http://www.ti.com/general/docs/suppproductinfo.tsp?distId=26&gotoUrl=http%3A%2F%2Fwww.ti.com%2Flit%2Fgpn%2Fina181; Height: 1.45mm; Mouser Part Number: 595-INA181A2IDBVR; Mouser Price/Stock: https://www.mouser.co.uk/ProductDetail/Texas-Instruments/INA181A2IDBVR?qs=5aG0NVq1C4wvxWxbAGEmKw%3D%3D; Arrow Part Number: INA181A2IDBVR; Arrow Price/Stock: https://www.arrow.com/en/products/ina181a2idbvr/texas-instruments.html?utm_currency=USD&region=nac
footprint SOT95P280X145-6N
pins: 1 OUT, 2 GND, 3 IN+, 4 IN-, 5 REF, 6 VS

## L78L33ABUTR
designator IC?
Integrated Circuit; Manufacturer_Name: STMicroelectronics; Manufacturer_Part_Number: L78L33ABUTR; Datasheet Link: https://www.st.com/resource/en/datasheet/l78l.pdf; Height: 1.6mm; Mouser Part Number: 511-L78L33ABU-TR; Mouser Price/Stock: https://www.mouser.co.uk/ProductDetail/STMicroelectronics/L78L33ABUTR?qs=PnCBpldbqFTdngPnlIvZbQ%3D%3D; Arrow Part Number: L78L33ABUTR; Arrow Price/Stock: https://www.arrow.com/en/products/l78l33abutr/stmicroelectronics?utm_currency=USD&region=nac
footprint L78L33ABUTR
pins: 1 VOUT, 2 GND_1, 3 VIN, 4 GND_2

## LM393PS
designator IC?
Integrated Circuit; Manufacturer_Name: Texas Instruments; Manufacturer_Part_Number: LM393PS; Datasheet Link: https://www.ti.com/lit/gpn/LM393; Height: 2mm; Mouser Part Number: 595-LM393PS; Mouser Price/Stock: https://www.mouser.co.uk/ProductDetail/Texas-Instruments/LM393PS?qs=byeeYqUIh0PIEckWUq91Lw%3D%3D; Arrow Part Number: LM393PS; Arrow Price/Stock: https://www.arrow.com/en/products/lm393ps/texas-instruments?utm_currency=USD&region=nac
footprint SOIC127P780X200-8N
pins: 1 1OUT, 2 1IN-, 3 1IN+, 4 GND, 5 2IN+, 6 2IN-, 7 2OUT, 8 VCC

## LM2903PWR
designator IC?
Integrated Circuit; Manufacturer_Name: Texas Instruments; Manufacturer_Part_Number: LM2903PWR; Datasheet Link: http://www.ti.com/lit/gpn/lm2903; Height: 1.2mm; Mouser Part Number: 595-LM2903PWR; Mouser Price/Stock: https://www.mouser.co.uk/ProductDetail/Texas-Instruments/LM2903PWR?qs=6aLkNDRfRUbDLBuyLGGYnQ%3D%3D; Arrow Part Number: LM2903PWR; Arrow Price/Stock: https://www.arrow.com/en/products/lm2903pwr/texas-instruments
footprint SOP65P640X120-8N
pins: 1 1OUT, 2 1IN-, 3 1IN+, 4 GND, 5 2IN+, 6 2IN-, 7 2OUT, 8 VCC

## LMR33630ADDAR
designator IC?
Integrated Circuit; Manufacturer_Name: Texas Instruments; Manufacturer_Part_Number: LMR33630ADDAR; Description: SIMPLE SWITCHER 3.8V to 36V; Datasheet Link: http://www.ti.com/lit/gpn/lmr33630; Height: 1.7mm; Mouser Part Number: 595-LMR33630ADDAR; Mouser Price/Stock: https://www.mouser.co.uk/ProductDetail/Texas-Instruments/LMR33630ADDAR?qs=r5DSvlrkXmJQkBTqgVdiDA%3D%3D; Arrow Part Number: LMR33630ADDAR; Arrow Price/Stock: https://www.arrow.com/en/products/lmr33630addar/texas-instruments.html?utm_currency=USD&region=nac
footprint SOIC127P600X170-9N
pins: 1 PGND, 2 VIN, 3 EN, 4 PG, 5 FB, 6 VCC, 7 BOOT, 8 SW, 9 GND

## LMV611MF_NOPB
designator IC?
Integrated Circuit; Manufacturer_Name: Texas Instruments; Manufacturer_Part_Number: LMV611MF/NOPB; Datasheet Link: http://www.ti.com/lit/gpn/lmv611; Height: 1.45mm; Mouser Part Number: 926-LMV611MF/NOPB; Mouser Price/Stock: https://www.mouser.co.uk/ProductDetail/Texas-Instruments/LMV611MF-NOPB?qs=vobMBmnAsJHuPuzyX5DoCA%3D%3D
footprint SOT95P280X145-5N
pins: 1 +IN, 2 V-, 3 -IN, 4 OUTPUT, 5 V+

## LTST-C930KRKT
designator LED?
LED; Manufacturer_Name: Lite-On; Manufacturer_Part_Number: LTST-C930KRKT; Datasheet Link: http://optoelectronics.liteon.com/upload/download/DS22-2000-094/LTST-C930KRKT.pdf; Height: 2.5mm; Mouser Part Number: 859-LTST-C930KRKT; Mouser Price/Stock: https://www.mouser.co.uk/ProductDetail/Lite-On/LTST-C930KRKT?qs=XLT4Ltk6ueG5Ump274jGag%3D%3D; Arrow Part Number: LTST-C930KRKT; Arrow Price/Stock: https://www.arrow.com/en/products/ltst-c930krkt/lite-on-technology?region=nac
footprint LTSTC930KRKT
pins: 1 K, 2 A

## LTV-247
designator IC?
Integrated Circuit; Manufacturer_Name: Lite-On; Manufacturer_Part_Number: LTV-247; Datasheet Link: http://optoelectronics.liteon.com/upload/download/DS70-2009-0014/LTV-2X7%20sereis%20Mar17.PDF; Mouser Part Number: 859-LTV-247; Mouser Price/Stock: https://www.mouser.co.uk/ProductDetail/LITEON/LTV-247?qs=9ayhpukWNmvWpoxQBzWkFA%3D%3D; Arrow Part Number: LTV-247; Arrow Price/Stock: https://www.arrow.com/en/products/ltv-247/lite-on-technology.html?utm_currency=USD&region=nac
footprint LTV247
pins: 1 A_1, 2 K_1, 3 A_2, 4 K_2, 5 A_3, 6 K_3, 7 A_4, 8 K_4, 9 E_4, 10 C_4, 11 E_3, 12 C_3, 13 E_2, 14 C_2, 15 E_1, 16 C_1

## LTV-352T
designator IC?
Integrated Circuit; Manufacturer_Name: Lite-On; Manufacturer_Part_Number: LTV-352T; Datasheet Link: http://optoelectronics.liteon.com/upload/download/DS70-2001-002/LTV-352T%20series%20201610.pdf; Height: 2.4mm; Mouser Part Number: 859-LTV-352T; Mouser Price/Stock: https://www.mouser.co.uk/ProductDetail/Lite-On/LTV-352T?qs=KWBjciIGda9uCrAOnESEtw%3D%3D; Arrow Part Number: LTV-352T; Arrow Price/Stock: https://www.arrow.com/en/products/ltv-352t/lite-on-technology?utm_currency=USD&region=europe
footprint SOP254P675X240-4N
pins: 1 A, 2 K, 3 E, 4 C

## M95512-DRDW3TP_K
designator IC?
Integrated Circuit; Manufacturer_Name: STMicroelectronics; Manufacturer_Part_Number: M95512-DRDW3TP/K; Datasheet Link: https://www.st.com/resource/en/datasheet/m95512-a125.pdf; Height: 1.2mm; Mouser Part Number: 511-M95512-DRDW3TP/K; Mouser Price/Stock: https://www.mouser.co.uk/ProductDetail/STMicroelectronics/M95512-DRDW3TP-K?qs=gNDSiZmRJS9PYRUKU5jCFA%3D%3D; Arrow Part Number: M95512-DRDW3TP/K; Arrow Price/Stock: https://www.arrow.com/en/products/m95512-drdw3tpk/stmicroelectronics?region=nac
footprint SOP65P640X120-8N
pins: 1 ~{S}, 2 Q, 3 ~{W}, 4 VSS, 5 D, 6 C, 7 ~{HOLD}, 8 VCC

## MAX1239EEE+
designator IC?
Integrated Circuit; Manufacturer_Name: Analog Devices; Manufacturer_Part_Number: MAX1239EEE+; Datasheet Link: https://datasheet.datasheetarchive.com/originals/distributors/Datasheets-18/DSA-341466.pdf; Height: 1.75mm; Mouser Part Number: 700-MAX1239EEE; Mouser Price/Stock: https://www.mouser.co.uk/ProductDetail/Analog-Devices-Maxim-Integrated/MAX1239EEE%2b?qs=9Cj2FLRihcPIYzsJdZg1qA%3D%3D; Arrow Part Number: MAX1239EEE+; Arrow Price/Stock: https://www.arrow.com/en/products/max1239eee/analog-devices?utm_currency=USD&region=nac
footprint SOP64P602X175-16N
pins: 1 AIN0 (in), 2 AIN1 (in), 3 AIN2 (in), 4 AIN3 (in), 5 AIN4 (in), 6 AIN5 (in), 7 AIN6 (in), 8 AIN7 (in), 9 SCL, 10 SDA, 11 GND (power), 12 VDD (power), 13 AIN11/REF (in), 14 AIN10 (in), 15 AIN9 (in), 16 AIN8 (in)

## MC78M05CDTX
designator IC?
Integrated Circuit; Manufacturer_Name: onsemi; Manufacturer_Part_Number: MC78M05CDTX; Datasheet Link: https://www.onsemi.com/download/data-sheet/pdf/MC78M05-D.pdf; Mouser Part Number: 512-MC78M05CDTX; Mouser Price/Stock: https://www.mouser.co.uk/ProductDetail/onsemi-Fairchild/MC78M05CDTX?qs=JB0VhtFvfQ9h2PN0g7bnQg%3D%3D; Arrow Part Number: MC78M05CDTX; Arrow Price/Stock: https://www.arrow.com/en/products/mc78m05cdtx/on-semiconductor
footprint MC78M05CDTX
pins: 1 INPUT (in), 2 OUTPUT (out), 3 GND_(TAB) (power)

## MC3303PT
designator IC?
Integrated Circuit; Manufacturer_Name: STMicroelectronics; Manufacturer_Part_Number: MC3303PT; Datasheet Link: https://www.st.com/resource/en/datasheet/mc3303.pdf; Height: 1.2mm; Mouser Part Number: 511-MC3303P; Mouser Price/Stock: https://www.mouser.co.uk/ProductDetail/STMicroelectronics/MC3303PT?qs=QGAPscFdrhWmb4GHSsE5Wg%3D%3D; Arrow Part Number: MC3303PT; Arrow Price/Stock: https://www.arrow.com/en/products/mc3303pt/stmicroelectronics
footprint SOP65P640X120-14N
pins: 1 OUTPUT1 (out), 2 INVERTING_INTPUT1 (in), 3 NON-INVERTING_INPUT1 (in), 4 VCC+ (power), 5 NON-INVERTING_INPUT2 (in), 6 INVERTING_INTPUT2 (in), 7 OUTPUT2 (out), 8 OUTPUT3 (out), 9 INVERTING_INTPUT3 (in), 10 NON-INVERTING_INPUT3 (in), 11 VCC- (power), 12 NON-INVERTING_INPUT4 (in), 13 INVERTING_INTPUT4 (in), 14 OUTPUT4 (out)

## NE555DR
designator IC?
Integrated Circuit; Manufacturer_Name: Texas Instruments; Manufacturer_Part_Number: NE555DR; Datasheet Link: http://www.ti.com/lit/ds/symlink/ne555.pdf; Height: 1.75mm; Mouser Part Number: 595-NE555DR; Mouser Price/Stock: https://www.mouser.com/Search/Refine.aspx?Keyword=595-NE555DR; RS Part Number: 1218414; RS Price/Stock: http://uk.rs-online.com/web/p/products/1218414
footprint SOIC127P600X175-8N
pins: 1 GND (power), 2 TRIG (in), 3 OUT (out), 4 ~{RESET} (in), 5 CONT (io), 6 THRES (in), 7 DISCH (out), 8 VCC (power)

## PC367N2J000F
designator IC?
Integrated Circuit; Manufacturer_Name: Sharp Microelectronics; Manufacturer_Part_Number: PC367N2J000F; Datasheet Link: https://componentsearchengine.com/Datasheets/1/PC367N2J000F.pdf; Height: 3mm; Mouser Part Number: 852-PC367N2J000F; Mouser Price/Stock: https://www.mouser.com/Search/Refine.aspx?Keyword=852-PC367N2J000F
footprint SOP254P675X300-4N
pins: 1 A, 2 K, 3 E, 4 C

## PCF8574RGTR
designator IC?
Integrated Circuit; Manufacturer_Name: Texas Instruments; Manufacturer_Part_Number: PCF8574RGTR; Datasheet Link: http://www.ti.com/lit/ds/symlink/pcf8574.pdf; Height: 1mm; Mouser Part Number: 595-PCF8574RGTR; Mouser Price/Stock: https://www.mouser.co.uk/ProductDetail/Texas-Instruments/PCF8574RGTR?qs=aEuGZpxfbxU4RAQYhLgLXA%3D%3D; Arrow Part Number: PCF8574RGTR; Arrow Price/Stock: https://www.arrow.com/en/products/pcf8574rgtr/texas-instruments.html?utm_currency=USD&region=nac
footprint QFN50P300X300X100-17N-D
pins: 1 VCC, 2 A0, 3 A1, 4 A2, 5 P0, 6 P1, 7 P2, 8 P3, 9 GND_1, 10 P4, 11 P5, 12 P6, 13 P7, 14 ~{INT}, 15 SCL, 16 SDA, 17 GND_2

## PIC12C508A-04_SN
designator IC?
Integrated Circuit; Manufacturer_Name: Microchip; Manufacturer_Part_Number: PIC12C508A-04/SN; Datasheet Link: https://datasheet.datasheetarchive.com/originals/distributors/Datasheets-319/55373.pdf; Height: 1.75mm; Mouser Part Number: 579-PIC12C508A-04/SN; Mouser Price/Stock: https://www.mouser.co.uk/ProductDetail/Microchip-Technology/PIC12C508A-04-SN?qs=L9Ynyw3fbhHU4uuZm6ADlA%3D%3D; Arrow Part Number: PIC12C508A-04/SN; Arrow Price/Stock: https://www.arrow.com/en/products/pic12c508a-04sn/microchip-technology.html?utm_currency=USD&region=europe
footprint SOIC127P601X175-8N
pins: 1 VDD (power), 2 GP5/OSC1/CLKIN (in), 3 GP4/OSC2, 4 GP3/~{MCLR}/VPP, 5 GP2/T0CKI, 6 GP1, 7 GP0, 8 VSS (power)

## PTS645SM43SMTR92_LFS
designator S?
Switch (4-Pin Push); Manufacturer_Name: LITTELFUSE; Manufacturer_Part_Number: PTS645SM43SMTR92 LFS; Datasheet Link: https://www.ckswitches.com/media/1471/pts645.pdf; Height: 4.4mm; Mouser Part Number: 611-PTS645SM43SMTR92; Mouser Price/Stock: https://www.mouser.co.uk/ProductDetail/CK/PTS645SM43SMTR92-LFS?qs=Imq1NPwxi75hrUk5xRQGSg%3D%3D; Arrow Part Number: PTS645SM43SMTR92 LFS; Arrow Price/Stock: https://www.arrow.com/en/products/pts645sm43smtr92lfs/ck?utm_currency=USD&region=nac
footprint PTS645SM43SMTR92LFS
pins: 1 NO_1, 2 NO_2, 3 COM_1, 4 COM_2

## PUMH18,115
designator Q?
Transistor BJT NPN; Manufacturer_Name: Nexperia; Manufacturer_Part_Number: PUMH18,115; Datasheet Link: https://assets.nexperia.com/documents/data-sheet/PEMH18_PUMH18.pdf; Height: 1.1mm
footprint SOT65P210X110-6N
pins: 1 GND_(EMITTER)_TR1, 2 INPUT_(BASE)_TR1, 3 OUTPUT_(COLLECTOR)_TR2, 4 GND_(EMITTER)_TR2, 5 INPUT_(BASE)_TR2, 6 OUTPUT_(COLLECTOR)_TR1

## RC0603JR07100RL
designator R?
Resistor; Manufacturer_Name: Yageo Group; Manufacturer_Part_Number: RC0603JR07100RL; Datasheet Link: http://www.yageo.com/documents/recent/PYu-RC0603_51_RoHS_L_v5.pdf; Height: 0.55mm; Arrow Part Number: RC0603JR07100RL; Arrow Price/Stock: https://www.arrow.com/en/products/rc0603jr-07100rl/yageo
footprint RESC1608X55N
pins: 1, 2

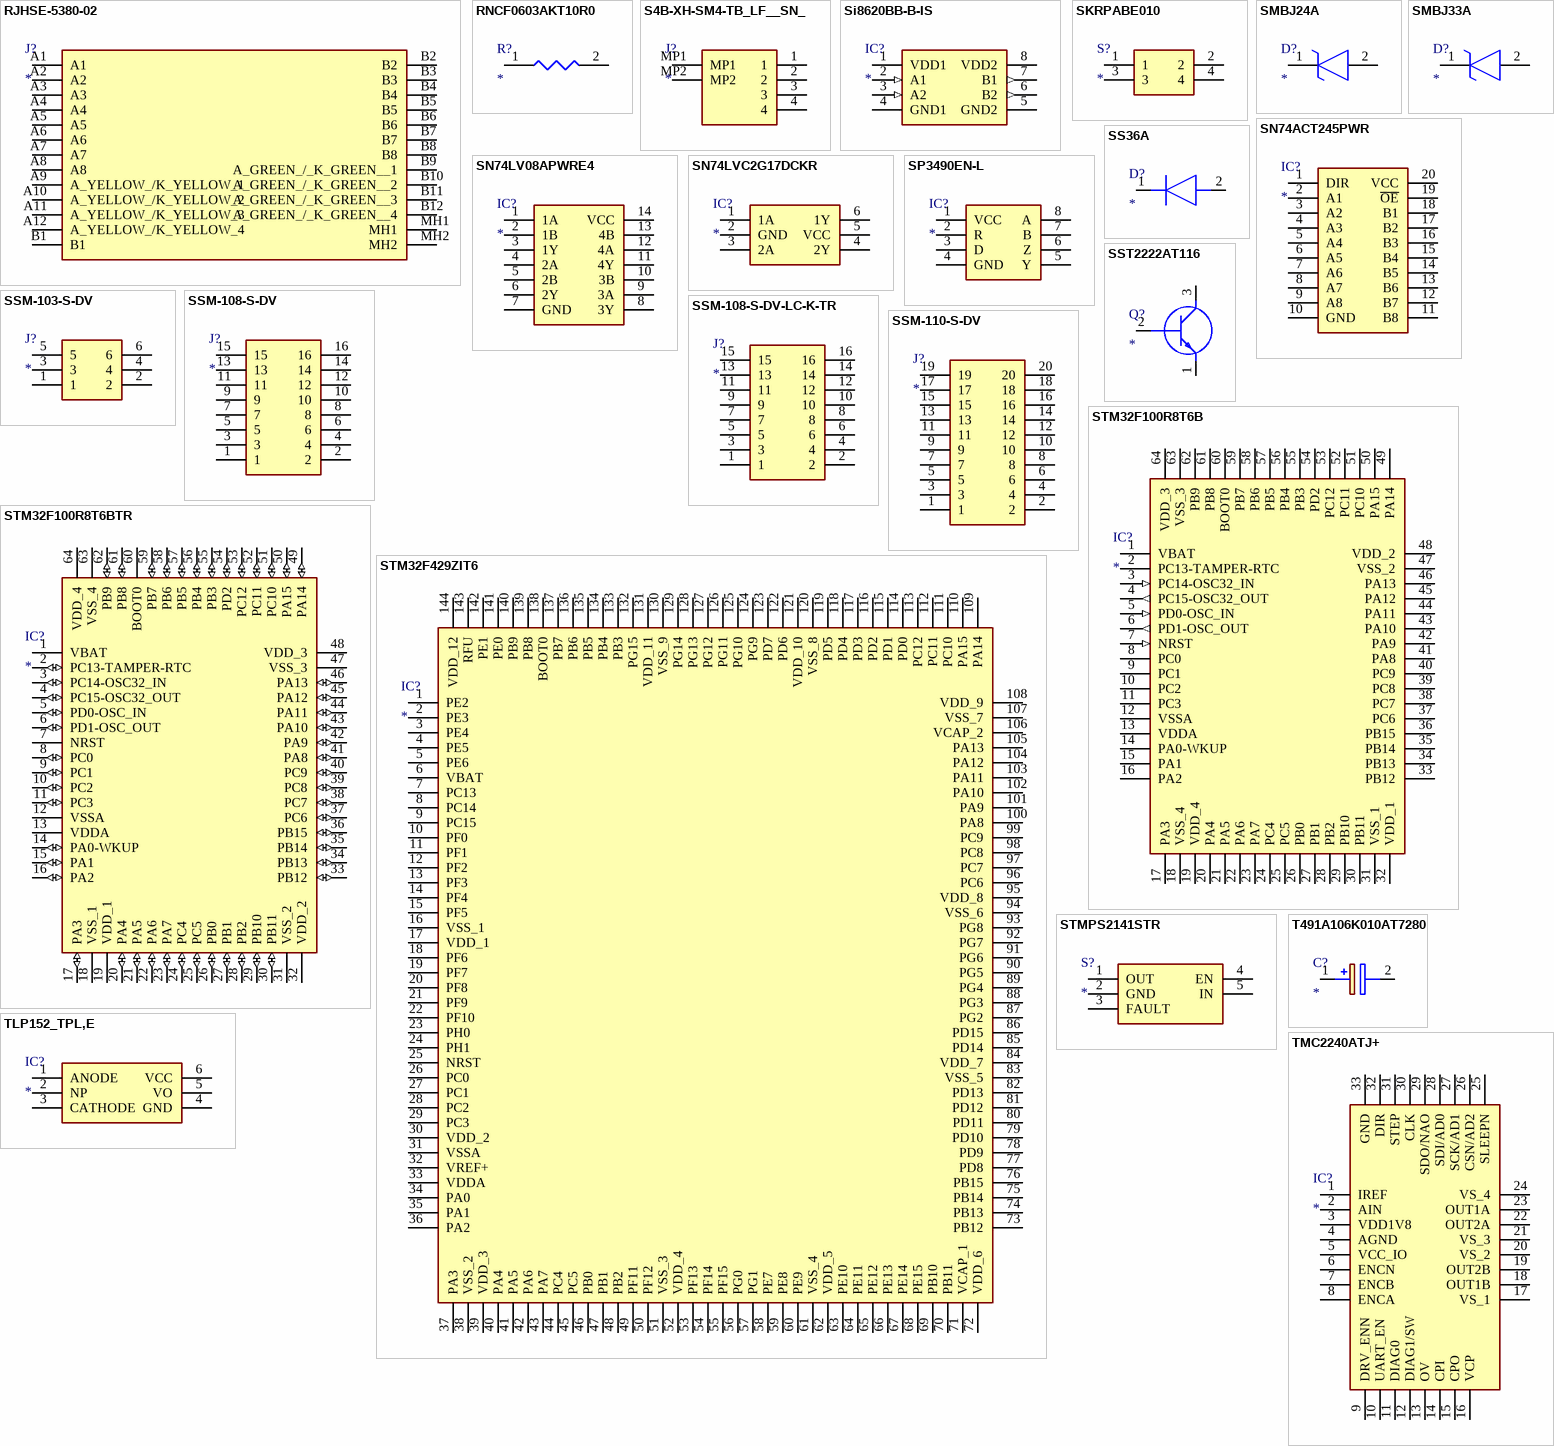
[diagram p2: symbols RJHSE-5380-02 to TMC2240ATJ+]

## RJHSE-5380-02
designator J?
Connector; Manufacturer_Name: Amphenol; Manufacturer_Part_Number: RJHSE-5380-02; Datasheet Link: http://www.amphenolinfocom.eu/NavData/Drawings/RJHSE-538X-02-REVC.pdf; Height: 13.46mm; Mouser Part Number: 523-RJHSE-5380-02; Mouser Price/Stock: https://www.mouser.co.uk/ProductDetail/Amphenol-Commercial-Products/RJHSE-5380-02?qs=88IJkhYWEX1L%2F5zduZZW7A%3D%3D; Arrow Part Number: RJHSE-5380-02; Arrow Price/Stock: https://www.arrow.com/en/products/rjhse538002/amphenol?utm_currency=USD&region=europe
footprint RJHSE538002
pins: A1, A2, A3, A4, A5, A6, A7, A8, A9 A_YELLOW_/K_YELLOW_1, A10 A_YELLOW_/K_YELLOW_2, A11 A_YELLOW_/K_YELLOW_3, A12 A_YELLOW_/K_YELLOW_4, B1, B2, B3, B4, B5, B6, B7, B8, B9 A_GREEN_/_K_GREEN__1, B10 A_GREEN_/_K_GREEN__2, B11 A_GREEN_/_K_GREEN__3, B12 A_GREEN_/_K_GREEN__4, MH1, MH2

## RNCF0603AKT10R0
designator R?
Resistor; Manufacturer_Name: Stackpole Electronics; Manufacturer_Part_Number: RNCF0603AKT10R0; Datasheet Link: https://cs.seielect.com/catalog/SEI-RNCF.pdf; Height: 0.55mm; Mouser Part Number: 708-RNCF0603AKT10R0; Mouser Price/Stock: https://www.mouser.co.uk/ProductDetail/SEI-Stackpole/RNCF0603AKT10R0?qs=IPgv5n7u5QaEV3NAu4qPaA%3D%3D; Arrow Part Number: RNCF0603AKT10R0; Arrow Price/Stock: https://www.arrow.com/en/products/rncf0603akt10r0/stackpole-electronics?region=nac
footprint RESC1608X55N
pins: 1, 2

## S4B-XH-SM4-TB_LF__SN_
designator J?
Connector; Manufacturer_Name: JST (JAPAN SOLDERLESS TERMINALS); Manufacturer_Part_Number: S4B-XH-SM4-TB(LF)(SN); Datasheet Link: https://datasheet.lcsc.com/szlcsc/JST-Sales-America-XHsocket-1-4P-SMD-pitch2-5mm_C161861.pdf; Height: 6mm; Mouser Part Number: N/A; Mouser Price/Stock: https://www.mouser.co.uk/ProductDetail/JST-Commercial/S4B-XH-SM4-TBLFSN?qs=QpmGXVUTftFbVzJ99uF5Vw%3D%3D; Arrow Part Number: S4B-XH-SM4-TB(LF)(SN); Arrow Price/Stock: https://www.arrow.com/en/products/s4b-xh-sm4-tb-lf-sn/jst-manufacturing.html?utm_currency=USD&region=europe
footprint S4BXHSM4TBLFSN
pins: 1, 2, 3, 4, MP1, MP2

## Si8620BB-B-IS
designator IC?
Integrated Circuit; Manufacturer_Name: Silicon Labs; Manufacturer_Part_Number: Si8620BB-B-IS; Datasheet Link: https://www.silabs.com/documents/public/data-sheets/si861x-2x-datasheet.pdf; Height: 1.75mm; Mouser Part Number: 634-SI8620BB-B-IS; Mouser Price/Stock: https://www.mouser.co.uk/ProductDetail/Silicon-Labs/SI8620BB-B-IS?qs=j6MGy4L9yX1F7vTVvxeyLw%3D%3D; Arrow Part Number: SI8620BB-B-IS; Arrow Price/Stock: https://www.arrow.com/en/products/si8620bb-b-is/silicon-labs
footprint SOIC127P600X175-8N
pins: 1 VDD1 (power), 2 A1 (in), 3 A2 (in), 4 GND1 (power), 5 GND2 (power), 6 B2 (out), 7 B1 (out), 8 VDD2 (power)

## SKRPABE010
designator S?
Switch; Manufacturer_Name: ALPS Electric; Manufacturer_Part_Number: SKRPABE010; Datasheet Link: https://tech.alpsalpine.com/e/products/detail/SKRPABE010/; Height: 2.5mm; Mouser Part Number: 688-SKRPAB; Mouser Price/Stock: https://www.mouser.co.uk/ProductDetail/Alps-Alpine/SKRPABE010?qs=m0BA540hBPe1GpcSf%2FZ5Yw%3D%3D; Arrow Part Number: SKRPABE010; Arrow Price/Stock: https://www.arrow.com/en/products/skrpabe010/alpsalpine.html?utm_currency=USD&region=asia
footprint SKRPABE010
pins: 1, 2, 3, 4

## SMBJ24A
designator D?
TVS Diode (Uni-directional); Manufacturer_Name: STMicroelectronics; Manufacturer_Part_Number: SMBJ24A; Datasheet Link: https://www.st.com/resource/en/datasheet/smbj12a.pdf; Height: 2.45mm
footprint SMBJ12A
pins: 1 K, 2 A

## SMBJ33A
designator D?
TVS Diode (Uni-directional); Manufacturer_Name: STMicroelectronics; Manufacturer_Part_Number: SMBJ33A; Datasheet Link: https://www.st.com/resource/en/datasheet/smbj12a.pdf; Height: 2.45mm
footprint SMBJ12A
pins: 1 K, 2 A

## SN74ACT245PWR
designator IC?
Integrated Circuit; Manufacturer_Name: Texas Instruments; Manufacturer_Part_Number: SN74ACT245PWR; Datasheet Link: http://www.ti.com/lit/gpn/sn74act245; Height: 1.2mm; Mouser Part Number: 595-SN74ACT245PWR; Mouser Price/Stock: https://www.mouser.co.uk/ProductDetail/Texas-Instruments/SN74ACT245PWR?qs=st7IWvlL5%2FjoGNAscwGTrw%3D%3D; Arrow Part Number: SN74ACT245PWR; Arrow Price/Stock: https://www.arrow.com/en/products/sn74act245pwr/texas-instruments?region=nac
footprint SOP65P640X120-20N
pins: 1 DIR, 2 A1, 3 A2, 4 A3, 5 A4, 6 A5, 7 A6, 8 A7, 9 A8, 10 GND, 11 B8, 12 B7, 13 B6, 14 B5, 15 B4, 16 B3, 17 B2, 18 B1, 19 ~{OE}, 20 VCC

## SN74LV08APWRE4
designator IC?
Integrated Circuit; Manufacturer_Name: Texas Instruments; Manufacturer_Part_Number: SN74LV08APWRE4; Datasheet Link: http://www.ti.com/general/docs/suppproductinfo.tsp?distId=10&gotoUrl=http%3A%2F%2Fwww.ti.com%2Flit%2Fgpn%2Fsn74lv08a; Height: 1.2mm; Mouser Part Number: 595-SN74LV08APWRE4; Mouser Price/Stock: https://www.mouser.co.uk/ProductDetail/Texas-Instruments/SN74LV08APWRE4?qs=UG%2F8xqv%2F6Wd7OCO5SrkbWA%3D%3D; Arrow Part Number: SN74LV08APWRE4; Arrow Price/Stock: https://www.arrow.com/en/products/sn74lv08apwre4/texas-instruments
footprint SOP65P640X120-14N
pins: 1 1A, 2 1B, 3 1Y, 4 2A, 5 2B, 6 2Y, 7 GND, 8 3Y, 9 3A, 10 3B, 11 4Y, 12 4A, 13 4B, 14 VCC

## SN74LVC2G17DCKR
designator IC?
Integrated Circuit; Manufacturer_Name: Texas Instruments; Manufacturer_Part_Number: SN74LVC2G17DCKR; Datasheet Link: http://www.ti.com/general/docs/suppproductinfo.tsp?distId=26&gotoUrl=http%3A%2F%2Fwww.ti.com%2Flit%2Fgpn%2Fsn74lvc2g17; Height: 1.1mm; Mouser Part Number: 595-SN74LVC2G17DCKR; Mouser Price/Stock: https://www.mouser.co.uk/ProductDetail/Texas-Instruments/SN74LVC2G17DCKR?qs=spW5eSrOWB6kZFcYtrLxUQ%3D%3D; Arrow Part Number: SN74LVC2G17DCKR; Arrow Price/Stock: https://www.arrow.com/en/products/sn74lvc2g17dckr/texas-instruments?utm_currency=USD&region=europe
footprint SOP65P210X110-6N
pins: 1 1A, 2 GND, 3 2A, 4 2Y, 5 VCC, 6 1Y

## SP3490EN-L
designator IC?
Integrated Circuit; Manufacturer_Name: MaxLinear; Manufacturer_Part_Number: SP3490EN-L; Datasheet Link: https://www.maxlinear.com/document?id=641; Height: 1.75mm; Mouser Part Number: 701-SP3490EN-L; Mouser Price/Stock: https://www.mouser.co.uk/ProductDetail/MaxLinear/SP3490EN-L?qs=H%252BP%2FcHWii3e5UfOv4UYDWQ%3D%3D; Arrow Part Number: SP3490EN-L; Arrow Price/Stock: https://www.arrow.com/en/products/sp3490en-l/maxlinear-inc?region=nac
footprint SOIC127P600X175-8N
pins: 1 VCC, 2 R, 3 D, 4 GND, 5 Y, 6 Z, 7 B, 8 A

## SS36A
designator D?
Diode; Manufacturer_Name: HY Electronic; Manufacturer_Part_Number: SS36A; Height: 2.62mm
footprint DIOM5026X262N
pins: 1 K, 2 A